# Altium footprint library SOT54A.PcbLib: 1 footprints
Each footprint in its own frame and in the unit in brackets; x right, y up, seen from the top. Pads: shape width x height; smd on the part's side, far side on the other; paste and mask are expansions set on the pad; w line width, h text height; cw(c..) or ccw(c..) is an arc to the next point about the centre after c.
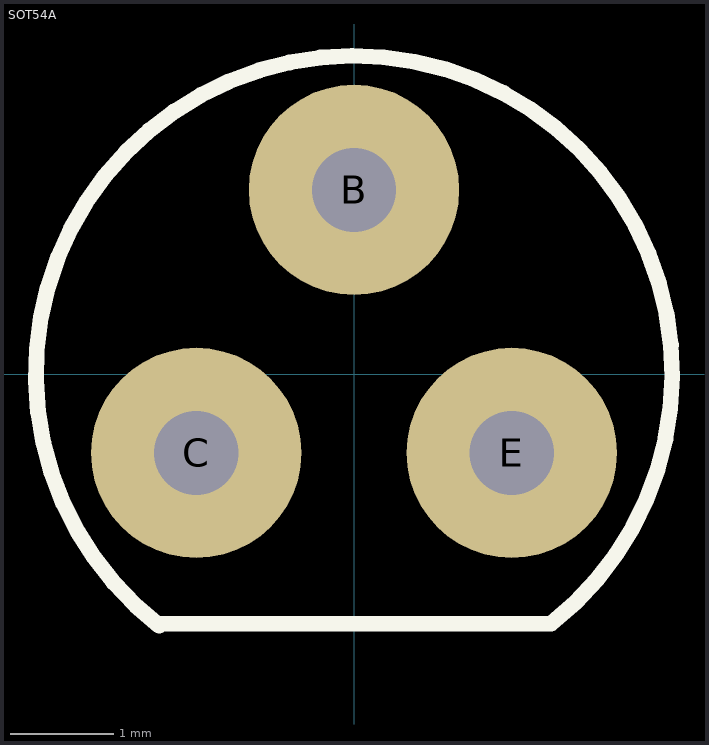
[diagram p0: the footprint, top view; thin cyan lines are the x and y axes]

## SOT54A [mil]
pads (3):
  round 80 hole 32: B(0,70) C(-60,-30) E(60,-30)
Top Overlay:
  lines w6: -74.02,-95.72 cw(c0,0) 75.23,-94.77 ; -73.43,-95 75,-95
3D body "step_temp.STEP": height 304.72, standoff -65.35, extent -93.9,-77.42 95,77.42